# Altium integrated library NXP Semiconductors Automotive MOSFETs.IntLib: 540 symbols (part 12 of 16)
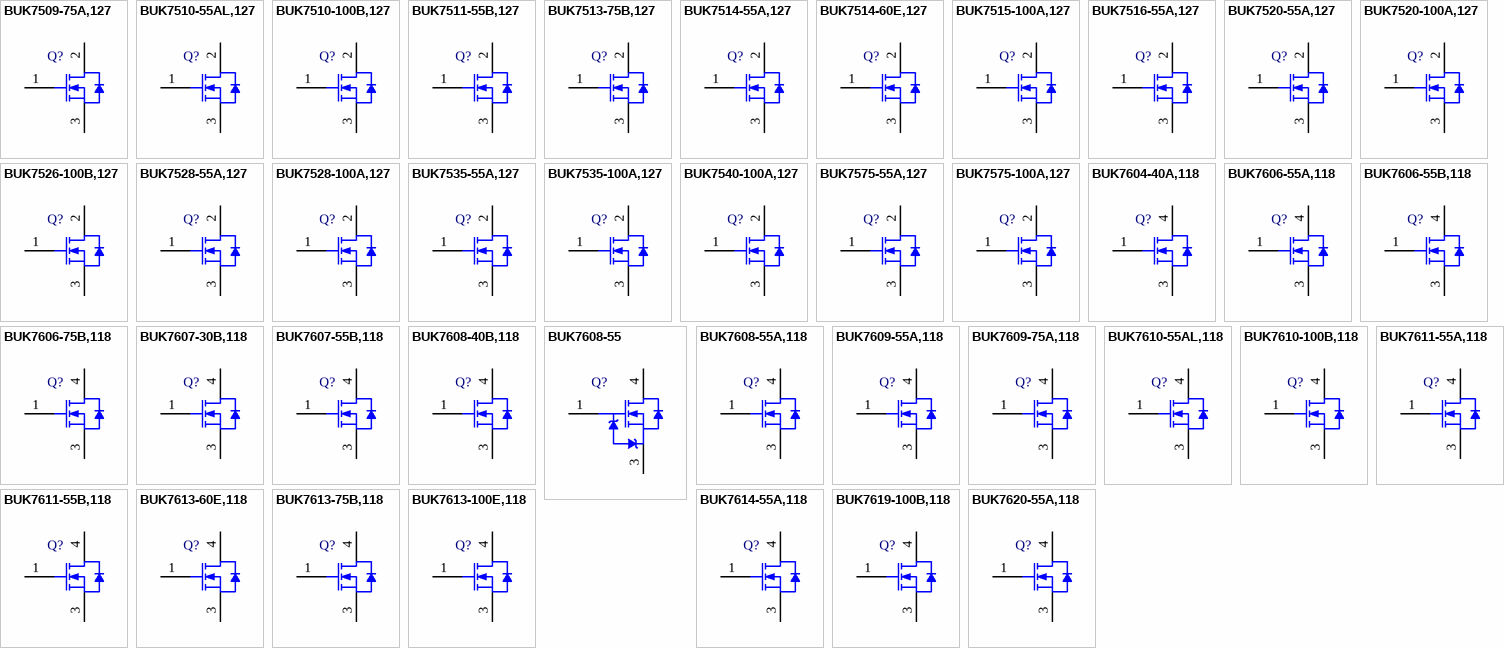
[diagram p25: symbols BUK7509-75A,127 to BUK7620-55A,118]

## BUK7613-60E,118
designator Q?
N-Channel TrenchMOS Standard Level FET, 60 V, 58 A, 3-Pin SOT404, Tape and Reel; Manufacturer: NXP Semiconductors; PartNumber: BUK7613-60E,118; Automotive Qualified: Y; Channel Type: N; ID [max] (A): 58; IDM [max] (A): 234; Packing: Tape & Reel; Qr [typ] (nC): 18.1; VDS [max] (V): 60; VGSth [typ] (V): 3; PackageVersion: 13-02-25, 02/2013; PackageReference: SOT404; PackageDescription: 3-Pin Plastic Single-ended Surface Mounted Package, Body 10 x 9.6 mm, Pitch 2.54 mm; Supplier 1: Digi-Key; Supplier Part Number 1: 568-9879-2-ND; Supplier 2: Digi-Key; Supplier Part Number 2: 568-9879-1-ND; Supplier 3: Digi-Key; Supplier Part Number 3: 568-9879-6-ND; Supplier 4: Mouser; Supplier Part Number 4: 771-BUK7613-60E118; Mounting Technology: Surface Mount; ComponentLink1Description: Manufacturer URL; ComponentLink1URL: http://www.nxp.com/; ComponentLink2Description: Datasheet; ComponentLink2URL: http://www.nxp.com/documents/data_sheet/BUK7613-60E.pdf; ComponentLink3Description: Package Specification; ComponentLink3URL: http://www.nxp.com/documents/outline_drawing/sot404_po.pdf
footprint NXP-SOT404_N (DPAK, 3-Leads, Body 10.3x9.8mm, Pitch 2.54mm, IPC Medium Density)
footprint NXP-SOT404_L (DPAK, 3-Leads, Body 10.3x9.8mm, Pitch 2.54mm, IPC High Density)
footprint NXP-SOT404_M (DPAK, 3-Leads, Body 10.3x9.8mm, Pitch 2.54mm, IPC Low Density)
pins: 1 G "gate", 3 S "source", 4 D "mounting base; connected to drain"

## BUK7613-75B,118
designator Q?
N-Channel TrenchMOS Standard Level FET, 75 V, 75 A, 3-Pin SOT404, Tape and Reel; Manufacturer: NXP Semiconductors; PartNumber: BUK7613-75B,118; Automotive Qualified: Y; Channel Type: N; ID [max] (A): 75; IDM [max] (A): 304; Packing: Tape & Reel; Qr [typ] (nC): 94; VGSth [typ] (V): 3; DatasheetVersion: Rev. 3; PackageVersion: 13-02-25, 02/2013; PackageReference: SOT404; PackageDescription: 3-Pin Plastic Single-ended Surface Mounted Package, Body 10 x 9.6 mm, Pitch 2.54 mm; Supplier 1: Digi-Key; Supplier Part Number 1: 568-5852-2-ND; Supplier 2: Digi-Key; Supplier Part Number 2: 568-5852-1-ND; Supplier 3: Digi-Key; Supplier Part Number 3: 568-5852-6-ND; Supplier 4: Mouser; Supplier Part Number 4: 771-BUK7613-75B118; VDS [max] (V): 75; Mounting Technology: Surface Mount; ComponentLink1Description: Manufacturer URL; ComponentLink1URL: http://www.nxp.com/; ComponentLink2Description: Datasheet; ComponentLink2URL: http://www.nxp.com/documents/data_sheet/BUK7613-75B.pdf; ComponentLink3Description: Package Specification; ComponentLink3URL: http://www.nxp.com/documents/outline_drawing/sot404_po.pdf
footprint NXP-SOT404_N (DPAK, 3-Leads, Body 10.3x9.8mm, Pitch 2.54mm, IPC Medium Density)
footprint NXP-SOT404_L (DPAK, 3-Leads, Body 10.3x9.8mm, Pitch 2.54mm, IPC High Density)
footprint NXP-SOT404_M (DPAK, 3-Leads, Body 10.3x9.8mm, Pitch 2.54mm, IPC Low Density)
pins: 1 G "gate", 3 S "source", 4 D "mounting base; connected to drain"

## BUK7613-100E,118
designator Q?
N-Channel TrenchMOS Standard Level FET, 100 V, 72 A, 3-Pin SOT404, Tape and Reel; Manufacturer: NXP Semiconductors; PartNumber: BUK7613-100E,118; Automotive Qualified: Y; Channel Type: N; ID [max] (A): 72; IDM [max] (A): 288; Packing: Tape & Reel; Qr [typ] (nC): 106; VDS [max] (V): 100; VGSth [typ] (V): 3; PackageVersion: 13-02-25, 02/2013; PackageReference: SOT404; PackageDescription: 3-Pin Plastic Single-ended Surface Mounted Package, Body 10 x 9.6 mm, Pitch 2.54 mm; Supplier 1: Digi-Key; Supplier Part Number 1: 568-10240-2-ND; Supplier 2: Digi-Key; Supplier Part Number 2: 568-10240-1-ND; Supplier 3: Digi-Key; Supplier Part Number 3: 568-10240-6-ND; Supplier 4: Newark; Supplier Part Number 4: 55W6033; Supplier 5: Mouser; Supplier Part Number 5: 771-BUK7613-100E118; Mounting Technology: Surface Mount; ComponentLink1Description: Manufacturer URL; ComponentLink1URL: http://www.nxp.com/; ComponentLink2Description: Datasheet; ComponentLink2URL: http://www.nxp.com/documents/data_sheet/BUK7613-100E.pdf; ComponentLink3Description: Package Specification; ComponentLink3URL: http://www.nxp.com/documents/outline_drawing/sot404_po.pdf
footprint NXP-SOT404_N (DPAK, 3-Leads, Body 10.3x9.8mm, Pitch 2.54mm, IPC Medium Density)
footprint NXP-SOT404_L (DPAK, 3-Leads, Body 10.3x9.8mm, Pitch 2.54mm, IPC High Density)
footprint NXP-SOT404_M (DPAK, 3-Leads, Body 10.3x9.8mm, Pitch 2.54mm, IPC Low Density)
pins: 1 G "gate", 3 S "source", 4 D "mounting base; connected to drain"

## BUK7614-55A,118
designator Q?
N-Channel TrenchMOS Standard Level FET, 55 V, 73 A, 3-Pin SOT404, Tape and Reel; Manufacturer: NXP Semiconductors; PartNumber: BUK7614-55A,118; Automotive Qualified: Y; Channel Type: N; ID [max] (A): 73; IDM [max] (A): 266; Packing: Tape & Reel; Qr [typ] (nC): 120; VDS [max] (V): 55; VGSth [typ] (V): 3; DatasheetVersion: Rev. 2; PackageVersion: 13-02-25, 02/2013; PackageReference: SOT404; PackageDescription: 3-Pin Plastic Single-ended Surface Mounted Package, Body 10 x 9.6 mm, Pitch 2.54 mm; Supplier 1: Digi-Key; Supplier Part Number 1: 568-9650-2-ND; Supplier 2: Digi-Key; Supplier Part Number 2: 568-9650-1-ND; Supplier 3: Digi-Key; Supplier Part Number 3: 568-9650-6-ND; Supplier 4: Mouser; Supplier Part Number 4: 771-BUK7614-55A118; Mounting Technology: Surface Mount; ComponentLink1Description: Manufacturer URL; ComponentLink1URL: http://www.nxp.com/; ComponentLink2Description: Datasheet; ComponentLink2URL: http://www.nxp.com/documents/data_sheet/BUK7614-55A.pdf; ComponentLink3Description: Package Specification; ComponentLink3URL: http://www.nxp.com/documents/outline_drawing/sot404_po.pdf
footprint NXP-SOT404_N (DPAK, 3-Leads, Body 10.3x9.8mm, Pitch 2.54mm, IPC Medium Density)
footprint NXP-SOT404_L (DPAK, 3-Leads, Body 10.3x9.8mm, Pitch 2.54mm, IPC High Density)
footprint NXP-SOT404_M (DPAK, 3-Leads, Body 10.3x9.8mm, Pitch 2.54mm, IPC Low Density)
pins: 1 G "gate", 3 S "source", 4 D "mounting base; connected to drain"

## BUK7619-100B,118
designator Q?
N-Channel TrenchMOS Standard Level FET, 100 V, 64 A, 3-Pin SOT404, Tape and Reel; Manufacturer: NXP Semiconductors; PartNumber: BUK7619-100B,118; Automotive Qualified: Y; Channel Type: N; ID [max] (A): 64; IDM [max] (A): 256; Packing: Tape & Reel; Qr [typ] (nC): 130; VDS [max] (V): 100; VGSth [typ] (V): 3; DatasheetVersion: Rev. 01; PackageVersion: 13-02-25, 02/2013; PackageReference: SOT404; PackageDescription: 3-Pin Plastic Single-ended Surface Mounted Package, Body 10 x 9.6 mm, Pitch 2.54 mm; Supplier 1: Digi-Key; Supplier Part Number 1: 568-5853-2-ND; Supplier 2: Digi-Key; Supplier Part Number 2: 568-5853-1-ND; Supplier 3: Digi-Key; Supplier Part Number 3: 568-5853-6-ND; Supplier 4: Mouser; Supplier Part Number 4: 771-BUK7619-100B,118; Mounting Technology: Surface Mount; ComponentLink1Description: Manufacturer URL; ComponentLink1URL: http://www.nxp.com/; ComponentLink2Description: Datasheet; ComponentLink2URL: http://www.nxp.com/documents/data_sheet/BUK7619-100B.pdf; ComponentLink3Description: Package Specification; ComponentLink3URL: http://www.nxp.com/documents/outline_drawing/sot404_po.pdf
footprint NXP-SOT404_N (DPAK, 3-Leads, Body 10.3x9.8mm, Pitch 2.54mm, IPC Medium Density)
footprint NXP-SOT404_L (DPAK, 3-Leads, Body 10.3x9.8mm, Pitch 2.54mm, IPC High Density)
footprint NXP-SOT404_M (DPAK, 3-Leads, Body 10.3x9.8mm, Pitch 2.54mm, IPC Low Density)
pins: 1 G "gate", 3 S "source", 4 D "mounting base; connected to drain"

## BUK7620-55A,118
designator Q?
N-Channel TrenchMOS Standard Level FET, 55 V, 54 A, 3-Pin SOT404, Tape and Reel; Manufacturer: NXP Semiconductors; PartNumber: BUK7620-55A,118; Automotive Qualified: Y; Channel Type: N; ID [max] (A): 54; IDM [max] (A): 217; Packing: Tape & Reel; Qr [typ] (nC): 110; VDS [max] (V): 55; VGSth [typ] (V): 3; DatasheetVersion: Rev. 02; PackageVersion: 13-02-25, 02/2013; PackageReference: SOT404; PackageDescription: 3-Pin Plastic Single-ended Surface Mounted Package, Body 10 x 9.6 mm, Pitch 2.54 mm; Supplier 1: Digi-Key; Supplier Part Number 1: BUK7620-55A,118-ND; Supplier 2: Mouser; Supplier Part Number 2: 771-BUK7620-55A118; Mounting Technology: Surface Mount; ComponentLink1Description: Manufacturer URL; ComponentLink1URL: http://www.nxp.com/; ComponentLink2Description: Datasheet; ComponentLink2URL: http://www.nxp.com/documents/data_sheet/BUK7620-55A.pdf; ComponentLink3Description: Package Specification; ComponentLink3URL: http://www.nxp.com/documents/outline_drawing/sot404_po.pdf
footprint NXP-SOT404_N (DPAK, 3-Leads, Body 10.3x9.8mm, Pitch 2.54mm, IPC Medium Density)
footprint NXP-SOT404_L (DPAK, 3-Leads, Body 10.3x9.8mm, Pitch 2.54mm, IPC High Density)
footprint NXP-SOT404_M (DPAK, 3-Leads, Body 10.3x9.8mm, Pitch 2.54mm, IPC Low Density)
pins: 1 G "gate", 3 S "source", 4 D "mounting base; connected to drain"

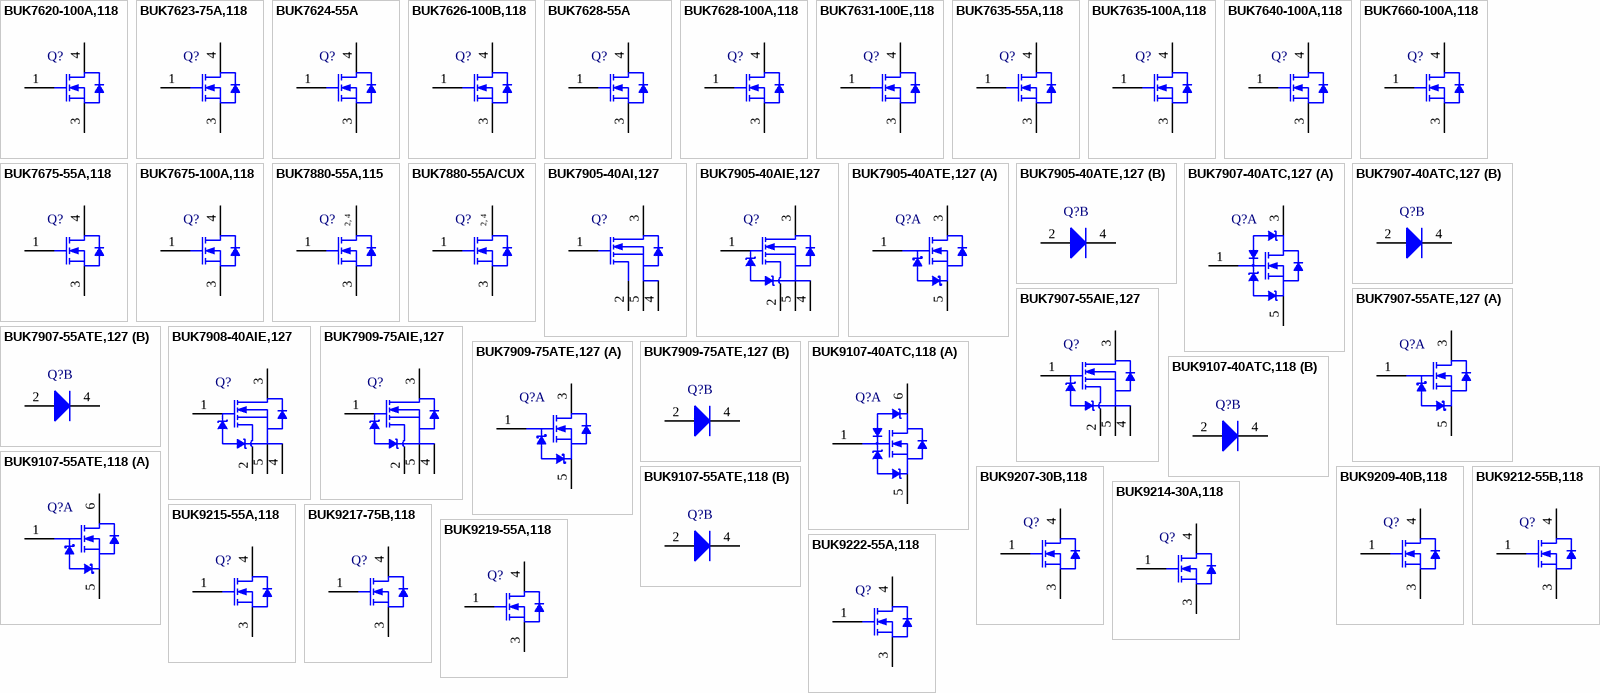
[diagram p11: symbols BUK7620-100A,118 to BUK9222-55A,118]

## BUK7620-100A,118
designator Q?
N-Channel TrenchMOS Standard Level FET, 100 V, 63 A, 3-Pin SOT404, Tape and Reel; Manufacturer: NXP Semiconductors; PartNumber: BUK7620-100A,118; Automotive Qualified: Y; Channel Type: N; ID [max] (A): 63; IDM [max] (A): 253; Packing: Tape & Reel; Qr [typ] (nC): 282; VDS [max] (V): 100; VGSth [typ] (V): 3; DatasheetVersion: Rev. 2; PackageVersion: 13-02-25, 02/2013; PackageReference: SOT404; PackageDescription: 3-Pin Plastic Single-ended Surface Mounted Package, Body 10 x 9.6 mm, Pitch 2.54 mm; Supplier 1: Digi-Key; Supplier Part Number 1: 568-9651-2-ND; Supplier 2: Digi-Key; Supplier Part Number 2: 568-9651-1-ND; Supplier 3: Digi-Key; Supplier Part Number 3: 568-9651-6-ND; Supplier 4: Mouser; Supplier Part Number 4: 771-BUK7620-100A118; Mounting Technology: Surface Mount; ComponentLink1Description: Manufacturer URL; ComponentLink1URL: http://www.nxp.com/; ComponentLink2Description: Datasheet; ComponentLink2URL: http://www.nxp.com/documents/data_sheet/BUK7620-100A.pdf; ComponentLink3Description: Package Specification; ComponentLink3URL: http://www.nxp.com/documents/outline_drawing/sot404_po.pdf
footprint NXP-SOT404_N (DPAK, 3-Leads, Body 10.3x9.8mm, Pitch 2.54mm, IPC Medium Density)
footprint NXP-SOT404_L (DPAK, 3-Leads, Body 10.3x9.8mm, Pitch 2.54mm, IPC High Density)
footprint NXP-SOT404_M (DPAK, 3-Leads, Body 10.3x9.8mm, Pitch 2.54mm, IPC Low Density)
pins: 1 G "gate", 3 S "source", 4 D "mounting base; connected to drain"

## BUK7623-75A,118
designator Q?
N-Channel TrenchMOS Standard Level FET, 75 V, 53 A, 3-Pin SOT404, Tape and Reel; Manufacturer: NXP Semiconductors; PartNumber: BUK7623-75A,118; Automotive Qualified: Y; Channel Type: N; ID [max] (A): 53; IDM [max] (A): 213; Packing: Tape & Reel; Qr [typ] (nC): 144; VDS [max] (V): 75; VGSth [typ] (V): 3; DatasheetVersion: Rev. 2; PackageVersion: 13-02-25, 02/2013; PackageReference: SOT404; PackageDescription: 3-Pin Plastic Single-ended Surface Mounted Package, Body 10 x 9.6 mm, Pitch 2.54 mm; Supplier 1: Digi-Key; Supplier Part Number 1: 568-9652-2-ND; Supplier 2: Digi-Key; Supplier Part Number 2: 568-9652-1-ND; Supplier 3: Digi-Key; Supplier Part Number 3: 568-9652-6-ND; Supplier 4: Mouser; Supplier Part Number 4: 771-BUK7623-75A118; Mounting Technology: Surface Mount; ComponentLink1Description: Manufacturer URL; ComponentLink1URL: http://www.nxp.com/; ComponentLink2Description: Datasheet; ComponentLink2URL: http://www.nxp.com/documents/data_sheet/BUK7623-75A.pdf; ComponentLink3Description: Package Specification; ComponentLink3URL: http://www.nxp.com/documents/outline_drawing/sot404_po.pdf
footprint NXP-SOT404_N (DPAK, 3-Leads, Body 10.3x9.8mm, Pitch 2.54mm, IPC Medium Density)
footprint NXP-SOT404_L (DPAK, 3-Leads, Body 10.3x9.8mm, Pitch 2.54mm, IPC High Density)
footprint NXP-SOT404_M (DPAK, 3-Leads, Body 10.3x9.8mm, Pitch 2.54mm, IPC Low Density)
pins: 1 G "gate", 3 S "source", 4 D "mounting base; connected to drain"

## BUK7624-55A
designator Q?
N-Channel TrenchMOS(TM) Standard Level FET, 55 V, 47 A, 3-Pin SOT404; Manufacturer: NXP Semiconductors; PartNumber: BUK7624-55A; Automotive Qualified: Y; Channel Type: N; ID [max] (A): 47; IDM [max] (A): 188; Qr [typ] (nC): 102; VDS [max] (V): 55; VGSth [typ] (V): 3; DatasheetVersion: Rev. 02; PackageVersion: 13-02-25, 02/2013; PackageReference: SOT404; PackageDescription: 3-Pin Plastic Single-ended Surface Mounted Package, Body 10 x 9.6 mm, Pitch 2.54 mm; Mounting Technology: Surface Mount; ComponentLink1Description: Manufacturer URL; ComponentLink1URL: http://www.nxp.com/; ComponentLink2Description: Datasheet; ComponentLink2URL: http://www.nxp.com/documents/data_sheet/BUK7524_7624_55A.pdf; ComponentLink3Description: Package Specification; ComponentLink3URL: http://www.nxp.com/documents/outline_drawing/sot404_po.pdf
footprint NXP-SOT404_N (DPAK, 3-Leads, Body 10.3x9.8mm, Pitch 2.54mm, IPC Medium Density)
footprint NXP-SOT404_L (DPAK, 3-Leads, Body 10.3x9.8mm, Pitch 2.54mm, IPC High Density)
footprint NXP-SOT404_M (DPAK, 3-Leads, Body 10.3x9.8mm, Pitch 2.54mm, IPC Low Density)
pins: 1 G "gate", 3 S "source", 4 D "mounting base; connected to drain"

## BUK7626-100B,118
designator Q?
N-Channel TrenchMOS Standard Level FET, 100 V, 49 A, 3-Pin SOT404, Tape and Reel; Manufacturer: NXP Semiconductors; PartNumber: BUK7626-100B,118; Automotive Qualified: Y; Channel Type: N; ID [max] (A): 49; IDM [max] (A): 197; Packing: Tape & Reel; Qr [typ] (nC): 115; VDS [max] (V): 100; VGSth [typ] (V): 3; DatasheetVersion: Rev. 2; PackageVersion: 13-02-25, 02/2013; PackageReference: SOT404; PackageDescription: 3-Pin Plastic Single-ended Surface Mounted Package, Body 10 x 9.6 mm, Pitch 2.54 mm; Supplier 1: Digi-Key; Supplier Part Number 1: 568-5855-2-ND; Supplier 2: Digi-Key; Supplier Part Number 2: 568-5855-1-ND; Supplier 3: Digi-Key; Supplier Part Number 3: 568-5855-6-ND; Supplier 4: Mouser; Supplier Part Number 4: 771-BUK7626-100B118; Mounting Technology: Surface Mount; ComponentLink1Description: Manufacturer URL; ComponentLink1URL: http://www.nxp.com/; ComponentLink2Description: Datasheet; ComponentLink2URL: http://www.nxp.com/documents/data_sheet/BUK7626-100B.pdf; ComponentLink3Description: Package Specification; ComponentLink3URL: http://www.nxp.com/documents/outline_drawing/sot404_po.pdf
footprint NXP-SOT404_N (DPAK, 3-Leads, Body 10.3x9.8mm, Pitch 2.54mm, IPC Medium Density)
footprint NXP-SOT404_L (DPAK, 3-Leads, Body 10.3x9.8mm, Pitch 2.54mm, IPC High Density)
footprint NXP-SOT404_M (DPAK, 3-Leads, Body 10.3x9.8mm, Pitch 2.54mm, IPC Low Density)
pins: 1 G "gate", 3 S "source", 4 D "mounting base; connected to drain"

## BUK7628-55A
designator Q?
N-Channel TrenchMOS(TM) Transistor Standard Level FET, 55 V, 42 A, -55 to 175 degC, 3-Pin SOT404; Manufacturer: NXP Semiconductors; PartNumber: BUK7628-55A; Automotive Qualified: Y; Channel Type: N; ID [max] (A): 42; IDM [max] (A): 168; Qr [typ] (nC): 88; VDS [max] (V): 55; VGSth [typ] (V): 3; DatasheetVersion: Rev. 1.100; PackageReference: SOT404_A; PackageDescription: 3-Pin Plastic Single-ended Surface Mounted Package, Body 10.3 x 9.8 mm, Pitch 2.54 mm; Mounting Technology: Surface Mount; ComponentLink1Description: Manufacturer URL; ComponentLink1URL: http://www.nxp.com/; ComponentLink2Description: Datasheet; ComponentLink2URL: http://www.nxp.com/documents/data_sheet/BUK7528_7628-55A.pdf; ComponentLink3Description: Package Specification; ComponentLink3URL: http://www.nxp.com/documents/data_sheet/BUK7608-55.pdf
footprint NXP-SOT404_A_V (DPAK, 3-Leads, Body 10.3x9.8mm, Pitch 2.54mm, Recommended)
pins: 1 G "gate", 3 S "source", 4 D "mounting base; connected to drain"

## BUK7628-100A,118
designator Q?
N-Channel TrenchMOS Standard Level FET, 100 V, 47 A, 3-Pin SOT404, Tape and Reel; Manufacturer: NXP Semiconductors; PartNumber: BUK7628-100A,118; Automotive Qualified: Y; Channel Type: N; ID [max] (A): 47; IDM [max] (A): 187; Packing: Tape & Reel; Qr [typ] (nC): 240; VDS [max] (V): 100; VGSth [typ] (V): 3; DatasheetVersion: Rev. 2; PackageVersion: 13-02-25, 02/2013; PackageReference: SOT404; PackageDescription: 3-Pin Plastic Single-ended Surface Mounted Package, Body 10 x 9.6 mm, Pitch 2.54 mm; Supplier 1: Digi-Key; Supplier Part Number 1: 568-9653-2-ND; Supplier 2: Digi-Key; Supplier Part Number 2: 568-9653-1-ND; Supplier 3: Digi-Key; Supplier Part Number 3: 568-9653-6-ND; Supplier 4: Mouser; Supplier Part Number 4: 771-BUK7628-100A118; Mounting Technology: Surface Mount; ComponentLink1Description: Manufacturer URL; ComponentLink1URL: http://www.nxp.com/; ComponentLink2Description: Datasheet; ComponentLink2URL: http://www.nxp.com/documents/data_sheet/BUK7628-100A.pdf; ComponentLink3Description: Package Specification; ComponentLink3URL: http://www.nxp.com/documents/outline_drawing/sot404_po.pdf
footprint NXP-SOT404_N (DPAK, 3-Leads, Body 10.3x9.8mm, Pitch 2.54mm, IPC Medium Density)
footprint NXP-SOT404_L (DPAK, 3-Leads, Body 10.3x9.8mm, Pitch 2.54mm, IPC High Density)
footprint NXP-SOT404_M (DPAK, 3-Leads, Body 10.3x9.8mm, Pitch 2.54mm, IPC Low Density)
pins: 1 G "gate", 3 S "source", 4 D "mounting base; connected to drain"

## BUK7631-100E,118
designator Q?
N-Channel TrenchMOS Standard Level FET, 100 V, 34 A, 3-Pin SOT404, Tape and Reel; Manufacturer: NXP Semiconductors; PartNumber: BUK7631-100E,118; Automotive Qualified: Y; Channel Type: N; ID [max] (A): 34; IDM [max] (A): 136; Packing: Tape & Reel; Qr [typ] (nC): 58.7; VDS [max] (V): 100; VGSth [typ] (V): 3; PackageVersion: 13-02-25, 02/2013; PackageReference: SOT404; PackageDescription: 3-Pin Plastic Single-ended Surface Mounted Package, Body 10 x 9.6 mm, Pitch 2.54 mm; Supplier 1: Digi-Key; Supplier Part Number 1: 568-10170-2-ND; Supplier 2: Digi-Key; Supplier Part Number 2: 568-10170-1-ND; Supplier 3: Digi-Key; Supplier Part Number 3: 568-10170-6-ND; Supplier 4: Newark; Supplier Part Number 4: 45W7248; Supplier 5: Mouser; Supplier Part Number 5: 771-BUK7631-100E118; Mounting Technology: Surface Mount; ComponentLink1Description: Manufacturer URL; ComponentLink1URL: http://www.nxp.com/; ComponentLink2Description: Datasheet; ComponentLink2URL: http://www.nxp.com/documents/data_sheet/BUK7631-100E.pdf; ComponentLink3Description: Package Specification; ComponentLink3URL: http://www.nxp.com/documents/outline_drawing/sot404_po.pdf
footprint NXP-SOT404_N (DPAK, 3-Leads, Body 10.3x9.8mm, Pitch 2.54mm, IPC Medium Density)
footprint NXP-SOT404_L (DPAK, 3-Leads, Body 10.3x9.8mm, Pitch 2.54mm, IPC High Density)
footprint NXP-SOT404_M (DPAK, 3-Leads, Body 10.3x9.8mm, Pitch 2.54mm, IPC Low Density)
pins: 1 G "gate", 3 S "source", 4 D "mounting base; connected to drain"

## BUK7635-55A,118
designator Q?
N-Channel TrenchMOS Standard Level FET, 55 V, 35 A, 3-Pin SOT404, Tape and Reel; Manufacturer: NXP Semiconductors; PartNumber: BUK7635-55A,118; Automotive Qualified: Y; Channel Type: N; ID [max] (A): 35; IDM [max] (A): 139; Packing: Tape & Reel; Qr [typ] (nC): 80; VDS [max] (V): 55; VGSth [typ] (V): 3; DatasheetVersion: Rev. 02; PackageVersion: 13-02-25, 02/2013; PackageReference: SOT404; PackageDescription: 3-Pin Plastic Single-ended Surface Mounted Package, Body 10 x 9.6 mm, Pitch 2.54 mm; Supplier 1: Digi-Key; Supplier Part Number 1: 568-9655-2-ND; Supplier 2: Digi-Key; Supplier Part Number 2: 568-9655-1-ND; Supplier 3: Digi-Key; Supplier Part Number 3: 568-9655-6-ND; Supplier 4: Mouser; Supplier Part Number 4: 771-BUK7635-55A118; Mounting Technology: Surface Mount; ComponentLink1Description: Manufacturer URL; ComponentLink1URL: http://www.nxp.com/; ComponentLink2Description: Datasheet; ComponentLink2URL: http://www.nxp.com/documents/data_sheet/BUK7635-55A.pdf; ComponentLink3Description: Package Specification; ComponentLink3URL: http://www.nxp.com/documents/outline_drawing/sot404_po.pdf
footprint NXP-SOT404_N (DPAK, 3-Leads, Body 10.3x9.8mm, Pitch 2.54mm, IPC Medium Density)
footprint NXP-SOT404_L (DPAK, 3-Leads, Body 10.3x9.8mm, Pitch 2.54mm, IPC High Density)
footprint NXP-SOT404_M (DPAK, 3-Leads, Body 10.3x9.8mm, Pitch 2.54mm, IPC Low Density)
pins: 1 G "gate", 3 S "source", 4 D "mounting base; connected to drain"

## BUK7635-100A,118
designator Q?
N-Channel TrenchMOS Standard Level FET, 100 V, 41 A, 3-Pin SOT404, Tape and Reel; Manufacturer: NXP Semiconductors; PartNumber: BUK7635-100A,118; Automotive Qualified: Y; Channel Type: N; ID [max] (A): 41; IDM [max] (A): 165; Packing: Tape & Reel; Qr [typ] (nC): 220; VDS [max] (V): 100; VGSth [typ] (V): 3; DatasheetVersion: Rev. 02; PackageVersion: 13-02-25, 02/2013; PackageReference: SOT404; PackageDescription: 3-Pin Plastic Single-ended Surface Mounted Package, Body 10 x 9.6 mm, Pitch 2.54 mm; Supplier 1: Digi-Key; Supplier Part Number 1: 568-9654-2-ND; Supplier 2: Digi-Key; Supplier Part Number 2: 568-9654-1-ND; Supplier 3: Digi-Key; Supplier Part Number 3: 568-9654-6-ND; Supplier 4: Mouser; Supplier Part Number 4: 771-BUK7635-100A118; Mounting Technology: Surface Mount; ComponentLink1Description: Manufacturer URL; ComponentLink1URL: http://www.nxp.com/; ComponentLink2Description: Datasheet; ComponentLink2URL: http://www.nxp.com/documents/data_sheet/BUK7635-100A.pdf; ComponentLink3Description: Package Specification; ComponentLink3URL: http://www.nxp.com/documents/outline_drawing/sot404_po.pdf
footprint NXP-SOT404_N (DPAK, 3-Leads, Body 10.3x9.8mm, Pitch 2.54mm, IPC Medium Density)
footprint NXP-SOT404_L (DPAK, 3-Leads, Body 10.3x9.8mm, Pitch 2.54mm, IPC High Density)
footprint NXP-SOT404_M (DPAK, 3-Leads, Body 10.3x9.8mm, Pitch 2.54mm, IPC Low Density)
pins: 1 G "gate", 3 S "source", 4 D "mounting base; connected to drain"

## BUK7640-100A,118
designator Q?
N-Channel TrenchMOS Standard Level FET, 100 V, 37 A, 3-Pin SOT404, Tape and Reel; Manufacturer: NXP Semiconductors; PartNumber: BUK7640-100A,118; Automotive Qualified: Y; Channel Type: N; ID [max] (A): 37; IDM [max] (A): 149; Packing: Tape & Reel; Qr [typ] (nC): 240; VDS [max] (V): 100; VGSth [typ] (V): 3; DatasheetVersion: Rev. 2; PackageVersion: 13-02-25, 02/2013; PackageReference: SOT404; PackageDescription: 3-Pin Plastic Single-ended Surface Mounted Package, Body 10 x 9.6 mm, Pitch 2.54 mm; Supplier 1: Digi-Key; Supplier Part Number 1: 568-9656-2-ND; Supplier 2: Digi-Key; Supplier Part Number 2: 568-9656-1-ND; Supplier 3: Digi-Key; Supplier Part Number 3: 568-9656-6-ND; Supplier 4: Newark; Supplier Part Number 4: 70R3492; Supplier 5: Mouser; Supplier Part Number 5: 771-BUK7640-100A118; Mounting Technology: Surface Mount; ComponentLink1Description: Manufacturer URL; ComponentLink1URL: http://www.nxp.com/; ComponentLink2Description: Datasheet; ComponentLink2URL: http://www.nxp.com/documents/data_sheet/BUK7640-100A.pdf; ComponentLink3Description: Package Specification; ComponentLink3URL: http://www.nxp.com/documents/outline_drawing/sot404_po.pdf
footprint NXP-SOT404_N (DPAK, 3-Leads, Body 10.3x9.8mm, Pitch 2.54mm, IPC Medium Density)
footprint NXP-SOT404_L (DPAK, 3-Leads, Body 10.3x9.8mm, Pitch 2.54mm, IPC High Density)
footprint NXP-SOT404_M (DPAK, 3-Leads, Body 10.3x9.8mm, Pitch 2.54mm, IPC Low Density)
pins: 1 G "gate", 3 S "source", 4 D "mounting base; connected to drain"

## BUK7660-100A,118
designator Q?
N-Channel TrenchMOS Standard Level FET, 100 V, 26 A, 3-Pin SOT404, Tape and Reel; Manufacturer: NXP Semiconductors; PartNumber: BUK7660-100A,118; Automotive Qualified: Y; Channel Type: N; ID [max] (A): 26; IDM [max] (A): 106; Packing: Tape & Reel; Qr [typ] (nC): 180; VDS [max] (V): 100; VGSth [typ] (V): 3; DatasheetVersion: Rev. 02; PackageVersion: 13-02-25, 02/2013; PackageReference: SOT404; PackageDescription: 3-Pin Plastic Single-ended Surface Mounted Package, Body 10 x 9.6 mm, Pitch 2.54 mm; Supplier 1: Digi-Key; Supplier Part Number 1: 568-9657-2-ND; Supplier 2: Digi-Key; Supplier Part Number 2: 568-9657-1-ND; Supplier 3: Digi-Key; Supplier Part Number 3: 568-9657-6-ND; Supplier 4: Mouser; Supplier Part Number 4: 771-BUK7660-100A118; Mounting Technology: Surface Mount; ComponentLink1Description: Manufacturer URL; ComponentLink1URL: http://www.nxp.com/; ComponentLink2Description: Datasheet; ComponentLink2URL: http://www.nxp.com/documents/data_sheet/BUK7660-100A.pdf; ComponentLink3Description: Package Specification; ComponentLink3URL: http://www.nxp.com/documents/outline_drawing/sot404_po.pdf
footprint NXP-SOT404_N (DPAK, 3-Leads, Body 10.3x9.8mm, Pitch 2.54mm, IPC Medium Density)
footprint NXP-SOT404_L (DPAK, 3-Leads, Body 10.3x9.8mm, Pitch 2.54mm, IPC High Density)
footprint NXP-SOT404_M (DPAK, 3-Leads, Body 10.3x9.8mm, Pitch 2.54mm, IPC Low Density)
pins: 1 G "gate", 3 S "source", 4 D "mounting base; connected to drain"

## BUK7675-55A,118
designator Q?
N-Channel TrenchMOS Standard Level FET, 55 V, 20.3 A, 3-Pin SOT404, Tape and Reel; Manufacturer: NXP Semiconductors; PartNumber: BUK7675-55A,118; Automotive Qualified: Y; Channel Type: N; ID [max] (A): 20.3; IDM [max] (A): 81; Packing: Tape & Reel; Qr [typ] (nC): 120; VDS [max] (V): 55; VGSth [typ] (V): 3; PackageVersion: 13-02-25, 02/2013; PackageReference: SOT404; PackageDescription: 3-Pin Plastic Single-ended Surface Mounted Package, Body 10 x 9.6 mm, Pitch 2.54 mm; Supplier 1: Digi-Key; Supplier Part Number 1: 568-9659-2-ND; Supplier 2: Digi-Key; Supplier Part Number 2: 568-9659-1-ND; Supplier 3: Digi-Key; Supplier Part Number 3: 568-9659-6-ND; Supplier 4: Mouser; Supplier Part Number 4: 771-BUK7675-55A118; Mounting Technology: Surface Mount; ComponentLink1Description: Manufacturer URL; ComponentLink1URL: http://www.nxp.com/; ComponentLink2Description: Datasheet; ComponentLink2URL: http://www.nxp.com/documents/data_sheet/BUK7675-55A.pdf; ComponentLink3Description: Package Specification; ComponentLink3URL: http://www.nxp.com/documents/outline_drawing/sot404_po.pdf
footprint NXP-SOT404_N (DPAK, 3-Leads, Body 10.3x9.8mm, Pitch 2.54mm, IPC Medium Density)
footprint NXP-SOT404_L (DPAK, 3-Leads, Body 10.3x9.8mm, Pitch 2.54mm, IPC High Density)
footprint NXP-SOT404_M (DPAK, 3-Leads, Body 10.3x9.8mm, Pitch 2.54mm, IPC Low Density)
pins: 1 G "gate", 3 S "source", 4 D "mounting base; connected to drain"

## BUK7675-100A,118
designator Q?
N-Channel TrenchMOS Standard Level FET, 100 V, 23 A, 3-Pin SOT404, Tape and Reel; Manufacturer: NXP Semiconductors; PartNumber: BUK7675-100A,118; Automotive Qualified: Y; Channel Type: N; ID [max] (A): 23; IDM [max] (A): 92; Packing: Tape & Reel; Qr [typ] (nC): 120; VDS [max] (V): 100; VGSth [typ] (V): 3; DatasheetVersion: Rev. 02; PackageVersion: 13-02-25, 02/2013; PackageReference: SOT404; PackageDescription: 3-Pin Plastic Single-ended Surface Mounted Package, Body 10 x 9.6 mm, Pitch 2.54 mm; Supplier 1: Digi-Key; Supplier Part Number 1: 568-9658-2-ND; Supplier 2: Digi-Key; Supplier Part Number 2: 568-9658-1-ND; Supplier 3: Digi-Key; Supplier Part Number 3: 568-9658-6-ND; Supplier 4: Mouser; Supplier Part Number 4: 771-BUK7675-100A118; Mounting Technology: Surface Mount; ComponentLink1Description: Manufacturer URL; ComponentLink1URL: http://www.nxp.com/; ComponentLink2Description: Datasheet; ComponentLink2URL: http://www.nxp.com/documents/data_sheet/BUK7675-100A.pdf; ComponentLink3Description: Package Specification; ComponentLink3URL: http://www.nxp.com/documents/outline_drawing/sot404_po.pdf
footprint NXP-SOT404_N (DPAK, 3-Leads, Body 10.3x9.8mm, Pitch 2.54mm, IPC Medium Density)
footprint NXP-SOT404_L (DPAK, 3-Leads, Body 10.3x9.8mm, Pitch 2.54mm, IPC High Density)
footprint NXP-SOT404_M (DPAK, 3-Leads, Body 10.3x9.8mm, Pitch 2.54mm, IPC Low Density)
pins: 1 G "gate", 3 S "source", 4 D "mounting base; connected to drain"

## BUK7880-55A,115
designator Q?
N-Channel TrenchMOS Standard Level FET, 55 V, 7 A, 4-Pin SOT223, Tape and Reel; Manufacturer: NXP Semiconductors; PartNumber: BUK7880-55A,115; Automotive Qualified: Y; Channel Type: N; ID [max] (A): 7; IDM [max] (A): 30; Packing: Tape & Reel; Qr [typ] (nC): 31; VDS [max] (V): 55; VGSth [typ] (V): 3; DatasheetVersion: Rev. 01; PackageVersion: 06-03-16, 03/2006; PackageReference: SOT223; PackageDescription: 4-Pin Small Outline Transistor Package, Body 6.5 x 3.5 mm, Pitch 2.3 mm; Supplier 1: Digi-Key; Supplier Part Number 1: 568-9712-2-ND; Supplier 2: Digi-Key; Supplier Part Number 2: 568-9712-1-ND; Supplier 3: Digi-Key; Supplier Part Number 3: 568-9712-6-ND; Supplier 4: Mouser; Supplier Part Number 4: 771-BUK7880-55A,115; Mounting Technology: Surface Mount; Code_JEITA: SC-73; ComponentLink1Description: Manufacturer URL; ComponentLink1URL: http://www.nxp.com/; ComponentLink2Description: Datasheet; ComponentLink2URL: http://www.nxp.com/documents/data_sheet/BUK7880-55A.pdf; ComponentLink3Description: Package Specification; ComponentLink3URL: http://www.nxp.com/documents/outline_drawing/sot223_po.pdf
footprint NXP-SOT223_N (SOT223, 4-Leads, Body 6.7x3.7mm, Pitch 2.3mm, IPC Medium Density)
footprint NXP-SOT223_L (SOT223, 4-Leads, Body 6.7x3.7mm, Pitch 2.3mm, IPC High Density)
footprint NXP-SOT223_M (SOT223, 4-Leads, Body 6.7x3.7mm, Pitch 2.3mm, IPC Low Density)
pins: 1 G "gate", 2 D "drain", 3 S "source", 4 D "drain"
text: 2, 4

## BUK7880-55A/CUX
designator Q?
N-Channel TrenchMOS Standard Level FET, 55 V, 7 A, 4-Pin SOT223, Tape and Reel; Manufacturer: NXP Semiconductors; PartNumber: BUK7880-55A/CUX; Automotive Qualified: Y; Channel Type: N; ID [max] (A): 7; IDM [max] (A): 30; Packing: Tape & Reel; Qr [typ] (nC): 31; VDS [max] (V): 55; VGSth [typ] (V): 3; DatasheetVersion: Rev. 01; PackageVersion: 06-03-16, 03/2006; PackageReference: SOT223; PackageDescription: 4-Pin Small Outline Transistor Package, Body 6.5 x 3.5 mm, Pitch 2.3 mm; Supplier 1: Mouser; Supplier Part Number 1: N/A; Mounting Technology: Surface Mount; Code_JEITA: SC-73; ComponentLink1Description: Manufacturer URL; ComponentLink1URL: http://www.nxp.com/; ComponentLink2Description: Datasheet; ComponentLink2URL: http://www.nxp.com/documents/data_sheet/BUK7880-55A.pdf; ComponentLink3Description: Package Specification; ComponentLink3URL: http://www.nxp.com/documents/outline_drawing/sot223_po.pdf
footprint NXP-SOT223_N (SOT223, 4-Leads, Body 6.7x3.7mm, Pitch 2.3mm, IPC Medium Density)
footprint NXP-SOT223_L (SOT223, 4-Leads, Body 6.7x3.7mm, Pitch 2.3mm, IPC High Density)
footprint NXP-SOT223_M (SOT223, 4-Leads, Body 6.7x3.7mm, Pitch 2.3mm, IPC Low Density)
pins: 1 G "gate", 2 D "drain", 3 S "source", 4 D "drain"
text: 2, 4

## BUK7905-40AI,127
designator Q?
N-Channel TrenchPLUS Standard Level FET, 40 V, 5-Pin SOT263B, Rail; Manufacturer: NXP Semiconductors; PartNumber: BUK7905-40AI,127; Automotive Qualified: Y; Channel Type: N; IDM [max] (A): 620; Qr [typ] (nC): 224; VDS [max] (V): 40; VGSth [typ] (V): 3; DatasheetVersion: Rev. 02; PackageVersion: 01-01-11, 01/2001; PackageReference: SOT263B; PackageDescription: 5-Pin Flange Mount, Vertical Straight Lead, Body 4.3 x 10 mm, Pitch 1.7 mm; Supplier 1: Digi-Key; Supplier Part Number 1: BUK7905-40AI,127-ND; Supplier 2: Mouser; Supplier Part Number 2: 771-BUK7905-40AI127; Packing: Rail; Mounting Technology: Through Hole; Code_JEDEC: 5-lead TO-220; ComponentLink1Description: Manufacturer URL; ComponentLink1URL: http://www.nxp.com/; ComponentLink2Description: Datasheet; ComponentLink2URL: http://www.nxp.com/documents/data_sheet/BUK7905-40AI.pdf; ComponentLink3Description: Package Specification; ComponentLink3URL: http://www.nxp.com/documents/outline_drawing/sot263b_po.pdf
footprint NXP-SOT263B (FM, 5-Leads, Body 10.3x4.5mm, Pitch 1.7mm)
pins: 1 G "gate", 2 ISENSE "current sense", 3 D "drain", 4 KS "Kelvin source", 5 S "source"

## BUK7905-40AIE,127
designator Q?
N-Channel TrenchPLUS Standard Level FET, 40 V, 5-Pin SOT263B, Rail; Manufacturer: NXP Semiconductors; PartNumber: BUK7905-40AIE,127; Automotive Qualified: Y; Channel Type: N; IDM [max] (A): 620; Qr [typ] (nC): 224; VDS [max] (V): 40; VGSth [typ] (V): 3; DatasheetVersion: Rev. 05; PackageVersion: 01-01-11, 01/2001; PackageReference: SOT263B; PackageDescription: 5-Pin Flange Mount, Vertical Straight Lead, Body 4.3 x 10 mm, Pitch 1.7 mm; Supplier 1: Digi-Key; Supplier Part Number 1: 568-9774-5-ND; Supplier 2: Mouser; Supplier Part Number 2: 771-BUK7905-40AIE127; Packing: Rail; Mounting Technology: Through Hole; Code_JEDEC: 5-lead TO-220; ComponentLink1Description: Manufacturer URL; ComponentLink1URL: http://www.nxp.com/; ComponentLink2Description: Datasheet; ComponentLink2URL: http://www.nxp.com/documents/data_sheet/BUK7905-40AIE.pdf; ComponentLink3Description: Package Specification; ComponentLink3URL: http://www.nxp.com/documents/outline_drawing/sot263b_po.pdf
footprint NXP-SOT263B (FM, 5-Leads, Body 10.3x4.5mm, Pitch 1.7mm)
pins: 1 G "gate", 2 ISENSE "Sense current", 3 D "drain", 4 KS "Kelvin source", 5 S "source"

## BUK7905-40ATE,127
designator Q?
N-Channel TrenchPLUS Standard Level FET, 40 V, 5-Pin SOT263B, Rail; Manufacturer: NXP Semiconductors; PartNumber: BUK7905-40ATE,127; Automotive Qualified: Y; Channel Type: N; IDM [max] (A): 620; Qr [typ] (nC): 224; VDS [max] (V): 40; VGSth [typ] (V): 3; DatasheetVersion: Rev. 02; PackageVersion: 01-01-11, 01/2001; PackageReference: SOT263B; PackageDescription: 5-Pin Flange Mount, Vertical Straight Lead, Body 4.3 x 10 mm, Pitch 1.7 mm; Supplier 1: Digi-Key; Supplier Part Number 1: BUK7905-40ATE,127-ND; Supplier 2: Mouser; Supplier Part Number 2: 771-BUK7905-40ATE127; Packing: Rail; Mounting Technology: Through Hole; Code_JEDEC: 5-lead TO-220; ComponentLink1Description: Manufacturer URL; ComponentLink1URL: http://www.nxp.com/; ComponentLink2Description: Datasheet; ComponentLink2URL: http://www.nxp.com/documents/data_sheet/BUK7905-40ATE.pdf; ComponentLink3Description: Package Specification; ComponentLink3URL: http://www.nxp.com/documents/outline_drawing/sot263b_po.pdf
footprint NXP-SOT263B (FM, 5-Leads, Body 10.3x4.5mm, Pitch 1.7mm)
part A pins: 1 G "gate", 3 D "drain", 5 S "source"
part B pins: 2 A "anode", 4 K "cathode"

## BUK7907-40ATC,127
designator Q?
N-Channel TrenchPLUS Standard Level FET, 40 V, 5-Pin SOT263B, Rail; Manufacturer: NXP Semiconductors; PartNumber: BUK7907-40ATC,127; Automotive Qualified: Y; Channel Type: N; IDM [max] (A): 560; Qr [typ] (nC): 200; VDS [max] (V): 40; VGSth [typ] (V): 3; DatasheetVersion: Rev. 02; PackageVersion: 01-01-11, 01/2001; PackageReference: SOT263B; PackageDescription: 5-Pin Flange Mount, Vertical Straight Lead, Body 4.3 x 10 mm, Pitch 1.7 mm; Supplier 1: Digi-Key; Supplier Part Number 1: BUK7907-40ATC,127-ND; Supplier 2: Mouser; Supplier Part Number 2: 771-BUK7907-40ATC127; Packing: Rail; Mounting Technology: Through Hole; Code_JEDEC: 5-lead TO-220; ComponentLink1Description: Manufacturer URL; ComponentLink1URL: http://www.nxp.com/; ComponentLink2Description: Datasheet; ComponentLink2URL: http://www.nxp.com/documents/data_sheet/BUK7907-40ATC.pdf; ComponentLink3Description: Package Specification; ComponentLink3URL: http://www.nxp.com/documents/outline_drawing/sot263b_po.pdf
footprint NXP-SOT263B (FM, 5-Leads, Body 10.3x4.5mm, Pitch 1.7mm)
part A pins: 1 G "gate", 3 D "drain", 5 S "source"
part B pins: 2 A "anode", 4 K "cathode"

## BUK7907-55AIE,127
designator Q?
N-Channel TrenchPLUS Standard Level FET, 55 V, 5-Pin SOT263B, Rail; Manufacturer: NXP Semiconductors; PartNumber: BUK7907-55AIE,127; Automotive Qualified: Y; Channel Type: N; IDM [max] (A): 560; Qr [typ] (nC): 200; VDS [max] (V): 55; VGSth [typ] (V): 3; DatasheetVersion: Rev. 02; PackageVersion: 01-01-11, 01/2001; PackageReference: SOT263B; PackageDescription: 5-Pin Flange Mount, Vertical Straight Lead, Body 4.3 x 10 mm, Pitch 1.7 mm; Supplier 1: Digi-Key; Supplier Part Number 1: BUK7907-55AIE,127-ND; Supplier 2: Mouser; Supplier Part Number 2: 771-BUK7907-55AIE127; Packing: Rail; Mounting Technology: Through Hole; Code_JEDEC: 5-lead TO-220; ComponentLink1Description: Manufacturer URL; ComponentLink1URL: http://www.nxp.com/; ComponentLink2Description: Datasheet; ComponentLink2URL: http://www.nxp.com/documents/data_sheet/BUK7907-55AIE.pdf; ComponentLink3Description: Package Specification; ComponentLink3URL: http://www.nxp.com/documents/outline_drawing/sot263b_po.pdf
footprint NXP-SOT263B (FM, 5-Leads, Body 10.3x4.5mm, Pitch 1.7mm)
pins: 1 G "gate", 2 ISENSE "Sense current", 3 D "drain", 4 KS "Kelvin source", 5 S "source"

## BUK7907-55ATE,127
designator Q?
N-Channel TrenchPLUS Standard Level FET, 55 V, 5-Pin SOT263B, Rail; Manufacturer: NXP Semiconductors; PartNumber: BUK7907-55ATE,127; Automotive Qualified: Y; Channel Type: N; IDM [max] (A): 560; Qr [typ] (nC): 200; VDS [max] (V): 55; VGSth [typ] (V): 3; DatasheetVersion: Rev. 03; PackageVersion: 01-01-11, 01/2001; PackageReference: SOT263B; PackageDescription: 5-Pin Flange Mount, Vertical Straight Lead, Body 4.3 x 10 mm, Pitch 1.7 mm; Supplier 1: Digi-Key; Supplier Part Number 1: 568-9740-5-ND; Supplier 2: Mouser; Supplier Part Number 2: 771-BUK7907-55ATE127; Packing: Rail; Mounting Technology: Through Hole; Code_JEDEC: 5-lead TO-220; ComponentLink1Description: Manufacturer URL; ComponentLink1URL: http://www.nxp.com/; ComponentLink2Description: Datasheet; ComponentLink2URL: http://www.nxp.com/documents/data_sheet/BUK7907-55ATE.pdf; ComponentLink3Description: Package Specification; ComponentLink3URL: http://www.nxp.com/documents/outline_drawing/sot263b_po.pdf
footprint NXP-SOT263B (FM, 5-Leads, Body 10.3x4.5mm, Pitch 1.7mm)
part A pins: 1 G "gate", 3 D "drain", 5 S "source"
part B pins: 2 A "anode", 4 K "cathode"

## BUK7908-40AIE,127
designator Q?
N-Channel TrenchPLUS Standard Level FET, 40 V, 5-Pin SOT263B, Rail; Manufacturer: NXP Semiconductors; PartNumber: BUK7908-40AIE,127; Automotive Qualified: Y; Channel Type: N; IDM [max] (A): 468; Qr [typ] (nC): 30; VDS [max] (V): 40; VGSth [typ] (V): 3; DatasheetVersion: Rev. 03; PackageVersion: 01-01-11, 01/2001; PackageReference: SOT263B; PackageDescription: 5-Pin Flange Mount, Vertical Straight Lead, Body 4.3 x 10 mm, Pitch 1.7 mm; Supplier 1: Digi-Key; Supplier Part Number 1: 568-9741-5-ND; Supplier 2: Mouser; Supplier Part Number 2: 771-BUK7908-40AIE127; Packing: Rail; Mounting Technology: Through Hole; Code_JEDEC: 5-lead TO-220; ComponentLink1Description: Manufacturer URL; ComponentLink1URL: http://www.nxp.com/; ComponentLink2Description: Datasheet; ComponentLink2URL: http://www.nxp.com/documents/data_sheet/BUK7908-40AIE.pdf; ComponentLink3Description: Package Specification; ComponentLink3URL: http://www.nxp.com/documents/outline_drawing/sot263b_po.pdf
footprint NXP-SOT263B (FM, 5-Leads, Body 10.3x4.5mm, Pitch 1.7mm)
pins: 1 G "gate", 2 ISENSE "Sense current", 3 D "drain", 4 KS "Kelvin source", 5 S "source"

## BUK7909-75AIE,127
designator Q?
N-Channel TrenchPLUS Standard Level FET, 75 V, 5-Pin SOT263B, Rail; Manufacturer: NXP Semiconductors; PartNumber: BUK7909-75AIE,127; Automotive Qualified: Y; Channel Type: N; IDM [max] (A): 480; Qr [typ] (nC): 270; VDS [max] (V): 75; VGSth [typ] (V): 3; DatasheetVersion: Rev. 02; PackageVersion: 01-01-11, 01/2001; PackageReference: SOT263B; PackageDescription: 5-Pin Flange Mount, Vertical Straight Lead, Body 4.3 x 10 mm, Pitch 1.7 mm; Supplier 1: Digi-Key; Supplier Part Number 1: 568-9742-5-ND; Supplier 2: Mouser; Supplier Part Number 2: 771-BUK7909-75AIE127; Packing: Rail; Mounting Technology: Through Hole; Code_JEDEC: 5-lead TO-220; ComponentLink1Description: Manufacturer URL; ComponentLink1URL: http://www.nxp.com/; ComponentLink2Description: Datasheet; ComponentLink2URL: http://www.nxp.com/documents/data_sheet/BUK7909-75AIE.pdf; ComponentLink3Description: Package Specification; ComponentLink3URL: http://www.nxp.com/documents/outline_drawing/sot263b_po.pdf
footprint NXP-SOT263B (FM, 5-Leads, Body 10.3x4.5mm, Pitch 1.7mm)
pins: 1 G "gate", 2 ISENSE "Sense current", 3 D "drain", 4 KS "Kelvin source", 5 S "source"

## BUK7909-75ATE,127
designator Q?
N-Channel TrenchPLUS Standard Level FET, 75 V, 5-Pin SOT263B, Rail; Manufacturer: NXP Semiconductors; PartNumber: BUK7909-75ATE,127; Automotive Qualified: Y; Channel Type: N; IDM [max] (A): 480; Qr [typ] (nC): 270; VDS [max] (V): 75; VGSth [typ] (V): 3; DatasheetVersion: Rev. 02; PackageVersion: 01-01-11, 01/2001; PackageReference: SOT263B; PackageDescription: 5-Pin Flange Mount, Vertical Straight Lead, Body 4.3 x 10 mm, Pitch 1.7 mm; Supplier 1: Digi-Key; Supplier Part Number 1: 568-9743-5-ND; Supplier 2: Mouser; Supplier Part Number 2: 771-BUK7909-75ATE127; Packing: Rail; Mounting Technology: Through Hole; Code_JEDEC: 5-lead TO-220; ComponentLink1Description: Manufacturer URL; ComponentLink1URL: http://www.nxp.com/; ComponentLink2Description: Datasheet; ComponentLink2URL: http://www.nxp.com/documents/data_sheet/BUK7909-75ATE.pdf; ComponentLink3Description: Package Specification; ComponentLink3URL: http://www.nxp.com/documents/outline_drawing/sot263b_po.pdf
footprint NXP-SOT263B (FM, 5-Leads, Body 10.3x4.5mm, Pitch 1.7mm)
part A pins: 1 G "gate", 3 D "drain", 5 S "source"
part B pins: 2 A "anode", 4 K "cathode"

## BUK9107-40ATC,118
designator Q?
N-Channel TrenchPLUS Logic Level FET, 40 V, 5-Pin SOT426, Tape and Reel; Manufacturer: NXP Semiconductors; PartNumber: BUK9107-40ATC,118; Automotive Qualified: Y; Channel Type: N; IDM [max] (A): 560; Packing: Tape & Reel; Qr [typ] (nC): 250; VDS [max] (V): 40; VGSth [typ] (V): 1.5; DatasheetVersion: Rev. 04; PackageVersion: 06-03-16, 03/2006; PackageReference: SOT426; PackageDescription: 5-Pin Plastic Single-ended Surface Mounted Package, Body 10 x 9.6 mm, Pitch 1.7 mm; Supplier 1: Digi-Key; Supplier Part Number 1: 568-9662-2-ND; Supplier 2: Digi-Key; Supplier Part Number 2: 568-9662-1-ND; Supplier 3: Digi-Key; Supplier Part Number 3: 568-9662-6-ND; Supplier 4: Mouser; Supplier Part Number 4: 771-BUK9107-40ATC118; Mounting Technology: Surface Mount; ComponentLink1Description: Manufacturer URL; ComponentLink1URL: http://www.nxp.com/; ComponentLink2Description: Datasheet; ComponentLink2URL: http://www.nxp.com/documents/data_sheet/BUK9107-40ATC.pdf; ComponentLink3Description: Package Specification; ComponentLink3URL: http://www.nxp.com/documents/outline_drawing/sot426_po.pdf
footprint NXP-SOT426_N (DPAK, 5-Leads, Body 10.3x9.8mm, Pitch 1.7mm, IPC Medium Density)
footprint NXP-SOT426_L (DPAK, 5-Leads, Body 10.3x9.8mm, Pitch 1.7mm, IPC High Density)
footprint NXP-SOT426_M (DPAK, 5-Leads, Body 10.3x9.8mm, Pitch 1.7mm, IPC Low Density)
part A pins: 1 G "gate", 5 S "source", 6 D "mounting base; connected to drain"
part B pins: 2 A "anode", 4 K "cathode"

## BUK9107-55ATE,118
designator Q?
N-Channel TrenchPLUS Logic Level FET, 55 V, 5-Pin SOT426, Tape and Reel; Manufacturer: NXP Semiconductors; PartNumber: BUK9107-55ATE,118; Automotive Qualified: Y; Channel Type: N; IDM [max] (A): 560; Packing: Tape & Reel; Qr [typ] (nC): 250; VDS [max] (V): 55; VGSth [typ] (V): 1.5; DatasheetVersion: Rev. 02; PackageVersion: 06-03-16, 03/2006; PackageReference: SOT426; PackageDescription: 5-Pin Plastic Single-ended Surface Mounted Package, Body 10 x 9.6 mm, Pitch 1.7 mm; Supplier 1: Digi-Key; Supplier Part Number 1: BUK9107-55ATE,118-ND; Supplier 2: Mouser; Supplier Part Number 2: 771-BUK9107-55ATE118; Mounting Technology: Surface Mount; ComponentLink1Description: Manufacturer URL; ComponentLink1URL: http://www.nxp.com/; ComponentLink2Description: Datasheet; ComponentLink2URL: http://www.nxp.com/documents/data_sheet/BUK9107-55ATE.pdf; ComponentLink3Description: Package Specification; ComponentLink3URL: http://www.nxp.com/documents/outline_drawing/sot426_po.pdf
footprint NXP-SOT426_N (DPAK, 5-Leads, Body 10.3x9.8mm, Pitch 1.7mm, IPC Medium Density)
footprint NXP-SOT426_L (DPAK, 5-Leads, Body 10.3x9.8mm, Pitch 1.7mm, IPC High Density)
footprint NXP-SOT426_M (DPAK, 5-Leads, Body 10.3x9.8mm, Pitch 1.7mm, IPC Low Density)
part A pins: 1 G "gate", 5 S "source", 6 D "mounting base; connected to  drain"
part B pins: 2 A "anode", 4 K "cathode"

## BUK9207-30B,118
designator Q?
N-Channel TrenchMOS Logic Level FET, 30 V, 3-Pin SOT428, Tape and Reel; Manufacturer: NXP Semiconductors; PartNumber: BUK9207-30B,118; Automotive Qualified: Y; Channel Type: N; IDM [max] (A): 449; Packing: Tape & Reel; Qr [typ] (nC): 42; VDS [max] (V): 30; VGSth [typ] (V): 1.5; DatasheetVersion: Rev. 03; PackageVersion: 14-06-10, 06/2014; PackageReference: SOT428; PackageDescription: 3-Pin Plastic Single-ended Surface Mounted Package, Body 6.1 x 6.6 mm, Pitch 2.285 mm; Supplier 1: Digi-Key; Supplier Part Number 1: 568-6581-2-ND; Supplier 2: Digi-Key; Supplier Part Number 2: 568-6581-1-ND; Supplier 3: Digi-Key; Supplier Part Number 3: 568-6581-6-ND; Supplier 4: Mouser; Supplier Part Number 4: 771-BUK9207-30B118; Mounting Technology: Surface Mount; Code_JEITA: SC-63; Code_JEDEC: TO-252; ComponentLink1Description: Manufacturer URL; ComponentLink1URL: http://www.nxp.com/; ComponentLink2Description: Datasheet; ComponentLink2URL: http://www.nxp.com/documents/data_sheet/BUK9207-30B.pdf; ComponentLink3Description: Package Specification; ComponentLink3URL: http://www.nxp.com/documents/outline_drawing/sot428_po.pdf
footprint NXP-SOT428_N (DPAK, 3-Leads, Body 6.75x6.22mm, Pitch 2.29mm, IPC Medium Density)
footprint NXP-SOT428_L (DPAK, 3-Leads, Body 6.75x6.22mm, Pitch 2.29mm, IPC High Density)
footprint NXP-SOT428_M (DPAK, 3-Leads, Body 6.75x6.22mm, Pitch 2.29mm, IPC Low Density)
pins: 1 G "gate", 3 S "source", 4 D "mounting base; connected to drain"

## BUK9209-40B,118
designator Q?
N-Channel TrenchMOS Logic Level FET, 40 V, 3-Pin SOT428, Tape and Reel; Manufacturer: NXP Semiconductors; PartNumber: BUK9209-40B,118; Automotive Qualified: Y; Channel Type: N; IDM [max] (A): 396; Packing: Tape & Reel; Qr [typ] (nC): 47; VDS [max] (V): 40; VGSth [typ] (V): 1.5; DatasheetVersion: Rev. 03; PackageVersion: 14-06-10, 06/2014; PackageReference: SOT428; PackageDescription: 3-Pin Plastic Single-ended Surface Mounted Package, Body 6.1 x 6.6 mm, Pitch 2.285 mm; Supplier 1: Digi-Key; Supplier Part Number 1: 568-6582-2-ND; Supplier 2: Digi-Key; Supplier Part Number 2: 568-6582-1-ND; Supplier 3: Digi-Key; Supplier Part Number 3: 568-6582-6-ND; Supplier 4: Newark; Supplier Part Number 4: 70R3530; Supplier 5: Mouser; Supplier Part Number 5: 771-BUK9209-40B118; Mounting Technology: Surface Mount; Code_JEITA: SC-63; Code_JEDEC: TO-252; ComponentLink1Description: Manufacturer URL; ComponentLink1URL: http://www.nxp.com/; ComponentLink2Description: Datasheet; ComponentLink2URL: http://www.nxp.com/documents/data_sheet/BUK9209-40B.pdf; ComponentLink3Description: Package Specification; ComponentLink3URL: http://www.nxp.com/documents/outline_drawing/sot428_po.pdf
footprint NXP-SOT428_N (DPAK, 3-Leads, Body 6.75x6.22mm, Pitch 2.29mm, IPC Medium Density)
footprint NXP-SOT428_L (DPAK, 3-Leads, Body 6.75x6.22mm, Pitch 2.29mm, IPC High Density)
footprint NXP-SOT428_M (DPAK, 3-Leads, Body 6.75x6.22mm, Pitch 2.29mm, IPC Low Density)
pins: 1 G "gate", 3 S "source", 4 D "mounting base; connected to drain"

## BUK9212-55B,118
designator Q?
N-Channel TrenchMOS Logic Level FET, 55 V, 3-Pin SOT428, Tape and Reel; Manufacturer: NXP Semiconductors; PartNumber: BUK9212-55B,118; Automotive Qualified: Y; Channel Type: N; IDM [max] (A): 335; Packing: Tape & Reel; Qr [typ] (nC): 53; VDS [max] (V): 55; VGSth [typ] (V): 1.5; DatasheetVersion: Rev. 03; PackageVersion: 14-06-10, 06/2014; PackageReference: SOT428; PackageDescription: 3-Pin Plastic Single-ended Surface Mounted Package, Body 6.1 x 6.6 mm, Pitch 2.285 mm; Supplier 1: Digi-Key; Supplier Part Number 1: 568-6583-2-ND; Supplier 2: Digi-Key; Supplier Part Number 2: 568-6583-1-ND; Supplier 3: Digi-Key; Supplier Part Number 3: 568-6583-6-ND; Supplier 4: Newark; Supplier Part Number 4: 70R3531; Supplier 5: Mouser; Supplier Part Number 5: 771-BUK9212-55B118; Mounting Technology: Surface Mount; Code_JEITA: SC-63; Code_JEDEC: TO-252; ComponentLink1Description: Manufacturer URL; ComponentLink1URL: http://www.nxp.com/; ComponentLink2Description: Datasheet; ComponentLink2URL: http://www.nxp.com/documents/data_sheet/BUK9212-55B.pdf; ComponentLink3Description: Package Specification; ComponentLink3URL: http://www.nxp.com/documents/outline_drawing/sot428_po.pdf
footprint NXP-SOT428_N (DPAK, 3-Leads, Body 6.75x6.22mm, Pitch 2.29mm, IPC Medium Density)
footprint NXP-SOT428_L (DPAK, 3-Leads, Body 6.75x6.22mm, Pitch 2.29mm, IPC High Density)
footprint NXP-SOT428_M (DPAK, 3-Leads, Body 6.75x6.22mm, Pitch 2.29mm, IPC Low Density)
pins: 1 G "gate", 3 S "source", 4 D "mounting base; connected to drain"

## BUK9214-30A,118
designator Q?
N-Channel TrenchMOS Logic Level FET, 30 V, 63 A, 3-Pin SOT428, Tape and Reel; Manufacturer: NXP Semiconductors; PartNumber: BUK9214-30A,118; Automotive Qualified: Y; Channel Type: N; ID [max] (A): 63; IDM [max] (A): 253; Packing: Tape & Reel; Qr [typ] (nC): 119; VDS [max] (V): 30; VGSth [typ] (V): 1.5; DatasheetVersion: Rev. 3; PackageVersion: 14-06-10, 06/2014; PackageReference: SOT428; PackageDescription: 3-Pin Plastic Single-ended Surface Mounted Package, Body 6.1 x 6.6 mm, Pitch 2.285 mm; Supplier 1: Digi-Key; Supplier Part Number 1: 568-9663-2-ND; Supplier 2: Digi-Key; Supplier Part Number 2: 568-9663-1-ND; Supplier 3: Digi-Key; Supplier Part Number 3: 568-9663-6-ND; Supplier 4: Mouser; Supplier Part Number 4: 771-BUK9214-30A,118; Mounting Technology: Surface Mount; Code_JEITA: SC-63; Code_JEDEC: TO-252; ComponentLink1Description: Manufacturer URL; ComponentLink1URL: http://www.nxp.com/; ComponentLink2Description: Datasheet; ComponentLink2URL: http://www.nxp.com/documents/data_sheet/BUK9214-30A.pdf; ComponentLink3Description: Package Specification; ComponentLink3URL: http://www.nxp.com/documents/outline_drawing/sot428_po.pdf
footprint NXP-SOT428_N (DPAK, 3-Leads, Body 6.75x6.22mm, Pitch 2.29mm, IPC Medium Density)
footprint NXP-SOT428_L (DPAK, 3-Leads, Body 6.75x6.22mm, Pitch 2.29mm, IPC High Density)
footprint NXP-SOT428_M (DPAK, 3-Leads, Body 6.75x6.22mm, Pitch 2.29mm, IPC Low Density)
pins: 1 G "gate", 3 S "source", 4 D "mounting base; connected to drain"